# Altium schematic symbol library 74HC00D.SchLib: 1 symbol
Pins are listed as number, name and electrical type; pins without a type are passive.

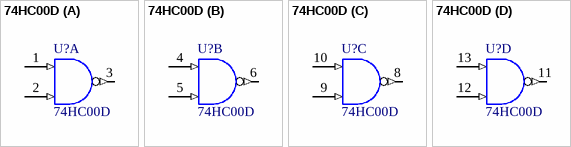
[diagram p0: symbol 74HC00D]

## 74HC00D
designator U?
NAND Gate; Назначение: 4 логических элемента 2И-НЕ; Потребление, Вт: 0,05; Наименование: 74HC00D
footprint SOIC-14
pins on every part: 7 GND (power) hidden to GND, 14 VCC (power) hidden to 3V3
part A pins: 1 A (in), 2 B (in), 3 ~{AB} (out)
part B pins: 4 A (in), 5 B (in), 6 ~{AB} (out)
part C pins: 8 ~{AB} (out), 9 B (in), 10 A (in)
part D pins: 11 ~{AB} (out), 12 B (in), 13 A (in)
2 alternate drawings of the same symbol